# EAGLE library part 233-212 (library con-wago_233)
Serie 233, Klemmenleiste für Leiterplatten 2 Lötstifte/Pol / Series 233, PCB terminal strip 2 solder pins/pole Polzahl / Pole No.: 12 Rastermaß / Pitch: 2.5 mm Bemessungsspannung / Rated Voltage: 160 V Nennstrom / Nominal Current: 6 A Leiterquerschnitt / Conductor Size: 0.08 - 0.5 mm² Anschlusstechnik / Connection Technology: CAGE CLAMP® Lötstiftlänge: / Solder Pin Length: 4 mm Leitereinführung (zur Platine) / Conductor entry angle (to PCB): 30 ° Farbe / Color: grau / gray Stand: 01.01.2012. Die jeweils aktuellen Daten zu diesem Artikel finden Sie in unserem Produktkatalog, den Sie unter www.wago.com einsehen können. As of: 01/01/2012. Please find the newest data for this article in our product catalogue, which can be viewed under www.wago.com.
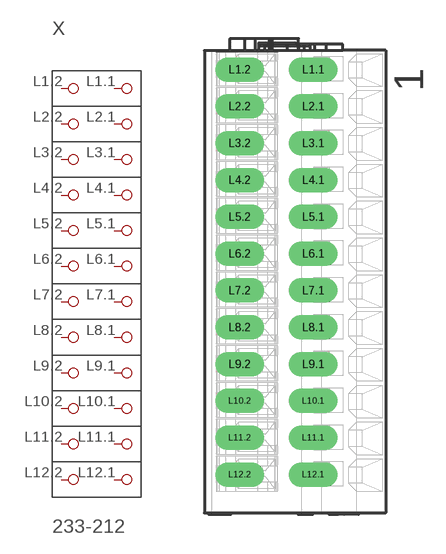
[diagram p30: symbol with the pads of P-233-212; footprint P-233-212]

Designator prefix X

## 233-212  [P-233-212]
L1.1  P1.1
L1.2  P1.2
L2.1  P2.1
L2.2  P2.2
L3.1  P3.1
L3.2  P3.2
L4.1  P4.1
L4.2  P4.2
L5.1  P5.1
L5.2  P5.2
L6.1  P6.1
L6.2  P6.2
L7.1  P7.1
L7.2  P7.2
L8.1  P8.1
L8.2  P8.2
L9.1  P9.1
L9.2  P9.2
L10.1  P10.1
L10.2  P10.2
L11.1  P11.1
L11.2  P11.2
L12.1  P12.1
L12.2  P12.2

## Footprint P-233-212 (pad centres in mm)
drill 1.1 long: L1.1 1.238,14.05; L1.2 -3.762,14.05; L2.1 1.238,11.55; L2.2 -3.762,11.55; L3.1 1.238,9.05; L3.2 -3.762,9.05; L4.1 1.238,6.55; L4.2 -3.762,6.55; L5.1 1.238,4.05; L5.2 -3.762,4.05; L6.1 1.238,1.55; L6.2 -3.762,1.55; L7.1 1.238,-0.95; L7.2 -3.762,-0.95; L8.1 1.238,-3.45; L8.2 -3.762,-3.45; L9.1 1.238,-5.95; L9.2 -3.762,-5.95; L10.1 1.238,-8.45; L10.2 -3.762,-8.45; L11.1 1.238,-10.95; L11.2 -3.762,-10.95; L12.1 1.238,-13.45; L12.2 -3.762,-13.45